# Altium footprint library inductor1050-22uH.PcbLib: 1 footprints
Each footprint in its own frame and in the unit in brackets; x right, y up, seen from the top. Pads: shape width x height; smd on the part's side, far side on the other; paste and mask are expansions set on the pad; w line width, h text height; cw(c..) or ccw(c..) is an arc to the next point about the centre after c.
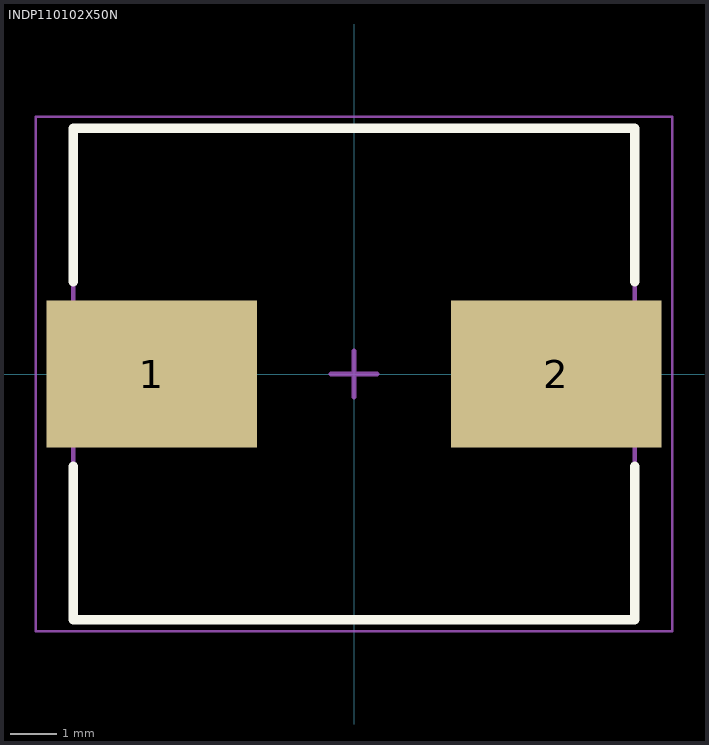
[diagram p0: the footprint, top view; thin cyan lines are the x and y axes]

## INDP110102X50N [mm] "Precision Wire Wound Inductor, 2-Leads, Body 11.00x10.25mm, IPC Medium Density"
height 5
pads (2):
  rect 4.5x3.15 smd: 1(-4.325,0) 2(4.325,0)
Top Overlay:
  lines w0.2: -6,-1.975 -6,-5.25 6,-5.25 6,-1.975 ; -6,1.975 -6,5.25 6,5.25 6,1.975
Mechanical 13:
  lines w0.1: -6,-5.25 -6,5.25 6,5.25 6,-5.25 -6,-5.25
Mechanical 15:
  lines w0.05: -6.8,-5.5 -6.8,5.5 6.8,5.5 6.8,-5.5 -6.8,-5.5
  lines w0.1: -0.5,0 0.5,0 ; 0,-0.5 0,0.5
3D body "INDP110102X50N.step": height 5.1, standoff 0, extent -5.6,-5.125 5.6,5.125